# Altium footprint library Q's常用电子元件.PcbLib: 69 footprints (part 4 of 5)
Each footprint in its own frame and in the unit in brackets; x right, y up, seen from the top. Pads: shape width x height; smd on the part's side, far side on the other; paste and mask are expansions set on the pad; w line width, h text height; cw(c..) or ccw(c..) is an arc to the next point about the centre after c.
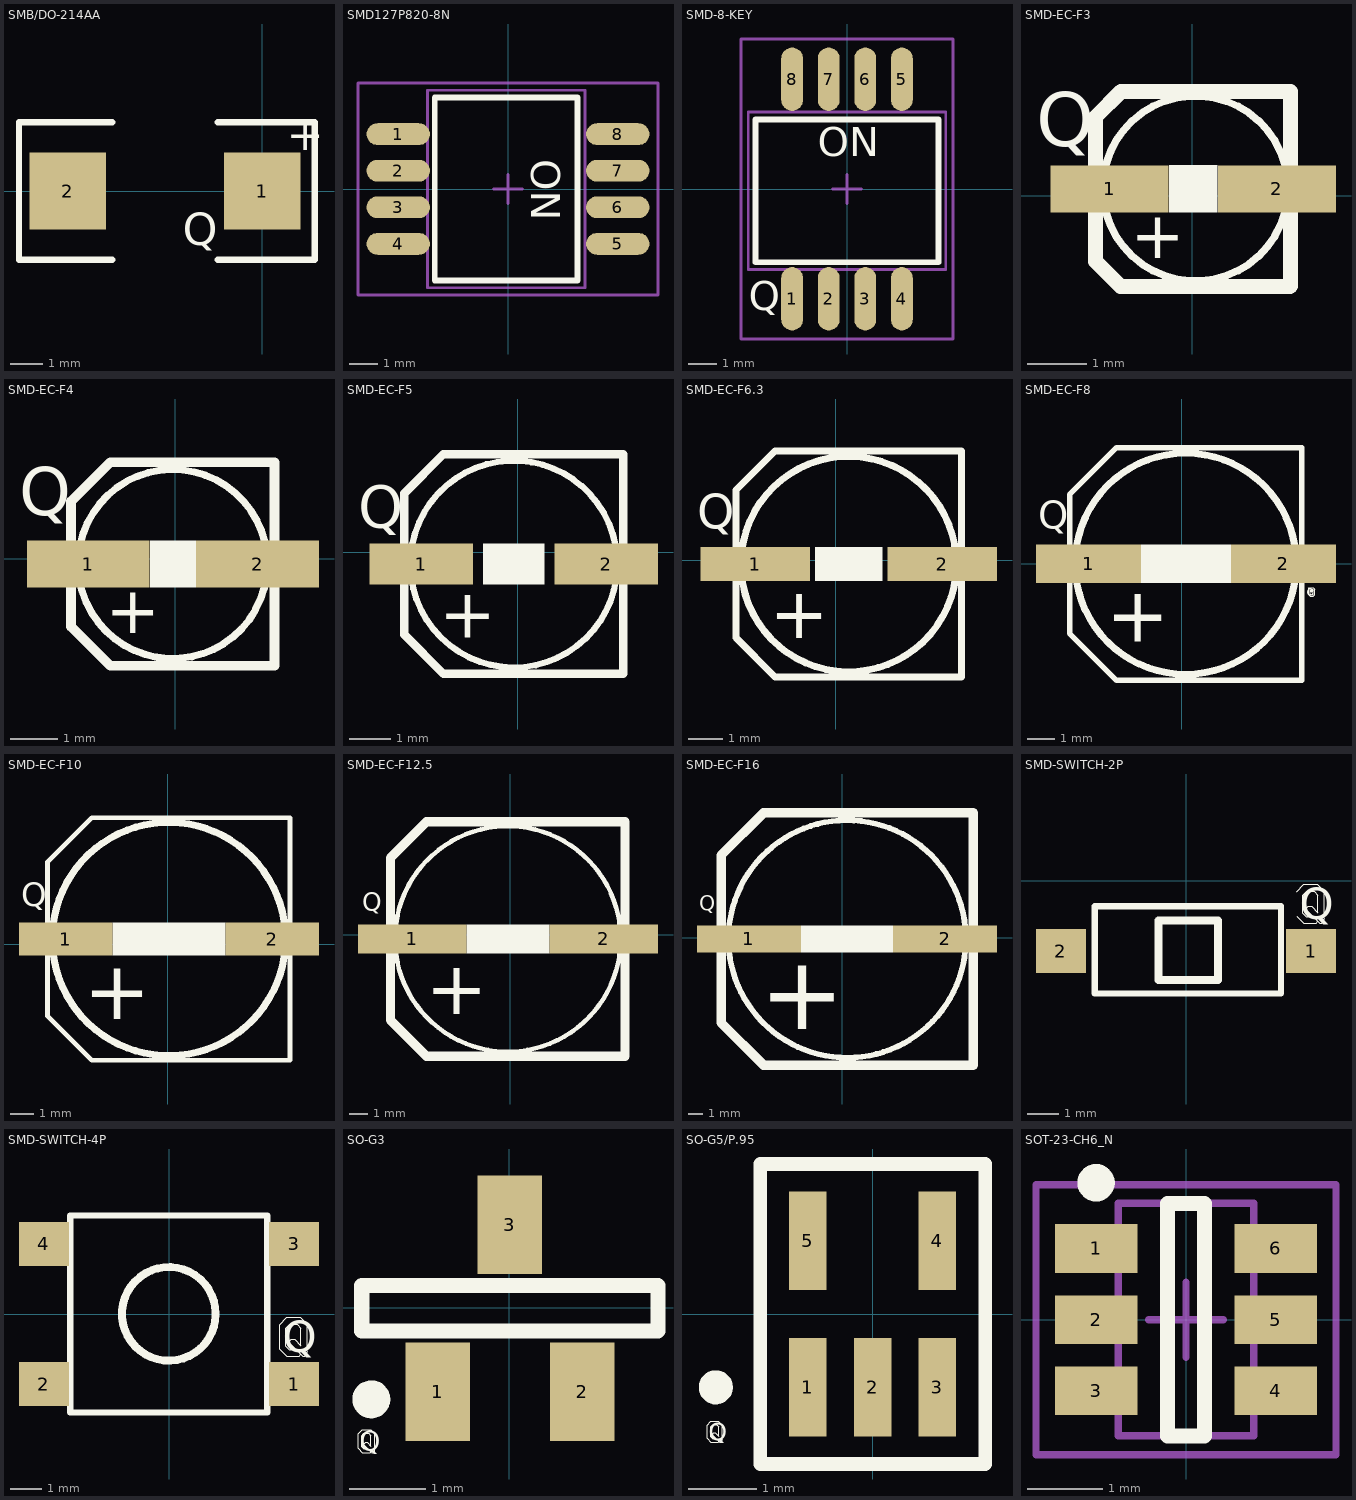
[diagram p3: the footprints below, top view; thin cyan lines are the x and y axes]

## SMB/DO-214AA [mm] "TVS封装"
pads (2):
  rect 2.4x2.4 smd: 1(0,0) 2(-6.096,0)
Top Overlay:
  lines w0.203: -4.699,-2.159 -7.62,-2.159 -7.62,2.159 -4.699,2.159 ; -1.397,-2.159 1.651,-2.159 1.651,2.159 -1.397,2.159
  text "Q" at -2.489,-1.702 h1.02
  text "+" at 0.762,1.27 h1.02
3D body: height 2.44, standoff 0.4, extent -5.981,-1.97 -0.381,1.97
3D body: height 1.6, standoff 0, extent -2.591,-1.817 -1.701,-0.571

## SMD127P820-8N [mm] "SOIC, 8-Leads, Body 4.9x3.9mm, Pitch 1.27mm, IPC Medium Density"
height 1.75
pads (8):
  oval 2.2x0.76 smd: 1(-3.81,1.905) 2(-3.81,0.635) 3(-3.81,-0.635) 4(-3.81,-1.905) 5(3.81,-1.905) 6(3.81,-0.635) 7(3.81,0.635) 8(3.81,1.905)
Top Overlay:
  lines w0.2: -2.54,-3.175 2.413,-3.175 2.413,3.175 -2.54,3.175 -2.54,-3.175
  text "ON" at 0.813,1.041 h1.02
Mechanical 13:
  lines w0.1: -2.794,-3.429 2.667,-3.429 2.667,3.429 -2.794,3.429 -2.794,-3.429
Mechanical 15:
  lines w0.1: -0.5,0 0.5,0 ; 0,-0.5 0,0.5 ; -5.207,-3.683 5.207,-3.683 5.207,3.683 -5.207,3.683 -5.207,-3.683
3D body: height 1.75, standoff 0, extent -2.733,-3.4 2.667,3.4

## SMD-8-KEY [mm] "SOIC, 8-Leads, Body 4.9x3.9mm, Pitch 1.27mm, IPC Medium Density"
height 1.75
pads (8):
  oval 0.76x2.2 smd: 1(-1.905,-3.81) 2(-0.635,-3.81) 3(0.635,-3.81) 4(1.905,-3.81) 5(1.905,3.81) 6(0.635,3.81) 7(-0.635,3.81) 8(-1.905,3.81)
Top Overlay:
  lines w0.2: -3.175,-2.54 3.175,-2.54 3.175,2.413 -3.175,2.413 -3.175,-2.54
  text "Q" at -3.404,-4.216 h1.02
  text "ON" at -1.016,1.143 h1.02
Mechanical 13:
  lines w0.1: -3.429,-2.794 3.429,-2.794 3.429,2.667 -3.429,2.667 -3.429,-2.794
Mechanical 15:
  lines w0.1: -0.5,0 0.5,0 ; 0,-0.5 0,0.5 ; -3.683,-5.207 3.683,-5.207 3.683,5.207 -3.683,5.207 -3.683,-5.207
3D body: height 2, standoff 0, extent 1.524,-1.524 2.286,0.127
3D body: height 2.3, standoff 0, extent 1.524,0.127 2.286,0.889
3D body: height 2, standoff 0, extent 0.254,-1.524 1.016,0.127
3D body: height 2.3, standoff 0, extent 0.254,0.127 1.016,0.889
3D body: height 2, standoff 0, extent -1.016,-0.762 -0.254,0.889
3D body: height 2.3, standoff 0, extent -1.016,-1.524 -0.254,-0.762
3D body: height 2.3, standoff 0, extent -2.286,0.127 -1.524,0.889
3D body: height 2, standoff 0, extent -2.286,-1.524 -1.524,0.127
3D body: height 1.8, standoff 0, extent -3.4,-2.733 3.4,2.667
3D body: height 0.76, standoff 0, extent -2.159,2.603 -1.651,3.81
3D body: height 0.76, standoff 0, extent -0.889,2.603 -0.381,3.81
3D body: height 0.76, standoff 0, extent 0.381,2.603 0.889,3.81
3D body: height 0.76, standoff 0, extent 1.651,2.603 2.159,3.81
3D body: height 0.76, standoff 0, extent -2.159,-3.81 -1.651,-2.603
3D body: height 0.76, standoff 0, extent -0.889,-3.81 -0.381,-2.603
3D body: height 0.76, standoff 0, extent 0.381,-3.81 0.889,-2.603
3D body: height 0.76, standoff 0, extent 1.651,-3.81 2.159,-2.603
3D body: height 1.6, standoff 0, extent -3.493,-4.169 -2.603,-2.923

## SMD-EC-F3 [mm] "贴片铝电解电容封装 by QUENTIN"
pads (2):
  rect 2x0.8 smd: 1(-1.397,0.119) 2(1.438,0.119)
Top Overlay:
  circle w0.127: c0.058,0.127 r1.568
  rectangle: -0.394,-0.28 0.435,0.525
  lines w0.203: -1.207,1.765 -1.631,1.341 -1.631,-1.11 -1.207,-1.534 1.663,-1.534 ; -1.202,1.77 1.669,1.77 1.669,-1.528
  lines w0.254: -1.631,-1.11 -1.207,-1.534 1.663,-1.534 1.669,-1.528 1.669,1.77 -1.202,1.77 -1.631,1.341 -1.631,-1.11
  text "Q" at -2.642,0.838 h0.91
  text "+" at -1.036,-1.056 h0.8
3D body: height 1.6, standoff 0, extent -2.762,0.721 -1.871,1.966
3D body: height 4, standoff 0, extent -1.517,-1.448 1.633,1.702
3D body: height 2, standoff 0, extent -1.631,-1.535 1.67,1.771

## SMD-EC-F4 [mm] "贴片铝电解电容封装 by QUENTIN"
pads (2):
  rect 2.6x1 smd: 1(-1.838,-0.112) 2(1.741,-0.112)
Top Overlay:
  rectangle: -0.536,-0.61 0.441,0.388
  lines w0.152: 1.723,0.813 ccw(c-0.051,-0.111) 1.724,0.81
  lines w0.203: 2.098,2.039 -1.377,2.039 -2.202,1.214 -2.202,-1.436 -1.377,-2.261 2.099,-2.261 2.099,2.038
  text "+" at -1.468,-1.572 h1
  text "Q" at -3.302,0.914 h1.02
3D body: height 1.6, standoff 0, extent -3.407,0.805 -2.517,2.05

## SMD-EC-F5 [mm] "贴片铝电解电容封装 by QUENTIN"
pads (2):
  rect 2.5x1 smd: 1(-2.337,-0.287) 2(2.14,-0.287)
Top Overlay:
  rectangle: -0.837,-0.787 0.644,0.213
  lines w0.152: 2.076,0.952 ccw(c-0.096,-0.287) 2.078,0.948
  lines w0.203: -2.12,-2.617 -2.744,-1.993 ; 2.553,2.369 -1.795,2.369 -1.796,2.368 -2.744,1.42 -2.744,-1.993 ; 2.554,-2.941 -1.795,-2.941 -1.795,-2.941 -2.744,-1.993 ; 2.555,-2.941 2.555,2.367
  text "Q" at -3.861,0.584 h1.02
  text "+" at -1.892,-2.064 h1.2
3D body: height 1.6, standoff 0, extent -3.894,0.411 -3.004,1.657

## SMD-EC-F6.3 [mm] "贴片铝电解电容封装 by QUENTIN"
pads (2):
  rect 3.2x1 smd: 1(-2.365,-0.114) 2(3.11,-0.114)
Top Overlay:
  rectangle: -0.618,-0.611 1.365,0.385
  lines w0.203: -1.778,-3.417 -2.929,-2.266 -2.929,2.049 -1.778,3.2 ; -1.776,-3.42 3.671,-3.42 3.671,3.194 -1.773,3.194 ; 3.302,1.041 ccw(c0.371,-0.113) 3.303,1.04
  text "Q" at -4.064,0.914 h1.02
  text "+" at -1.934,-2.278 h1.5
3D body: height 1.6, standoff 0, extent -4.042,0.711 -3.152,1.956

## SMD-EC-F8 [mm] "贴片铝电解电容封装 by QUENTIN"
pads (2):
  rect 3.8x1.4 smd: 1(-3.368,0) 2(3.683,0)
Top Overlay:
  rectangle: -1.478,-0.7 1.785,0.7
  lines w0.001: 4.592,-1.123 4.592,-0.932 4.605,-0.919 4.602,-0.919 4.597,-0.914 4.595,-0.912 4.595,-0.909 4.592,-0.907 4.592,-0.892 4.61,-0.874 4.63,-0.874 4.641,-0.884 4.729,-0.973 4.729,-0.993 4.714,-1.008 4.691,-1.008 4.643,-0.96 4.643,-1.1 4.671,-1.128 4.735,-1.128 4.763,-1.1 4.763,-0.953 4.735,-0.925 4.684,-0.925 4.643,-0.884 4.643,-0.881 4.651,-0.874 4.757,-0.874 4.813,-0.93 4.813,-1.123 4.757,-1.179 4.648,-1.179 4.63,-1.161 4.592,-1.123
  lines w0.203: -4.054,2.499 -2.355,4.198 ; -4.054,2.499 -4.054,-2.52 -2.355,-4.219 4.346,-4.219 4.346,4.198 -2.355,4.198 ; -4.054,2.499 -2.355,4.198
  lines w0.254: 4.147,0 ccw(c0.147,0) 4.147,0
  text "Q" at 4.788,-0.899 h0.25
  text "+" at -2.728,-2.818 h2
  text "Q" at -5.182,1.27 h1.02
3D body: height 0.6, standoff 0, extent 4.592,-1.179 4.814,-0.873
3D body: height 1.6, standoff 0, extent -5.294,0.939 -4.404,2.185

## SMD-EC-F10 [mm] "贴片铝电解电容封装 by QUENTIN"
pads (2):
  rect 4x1.4 smd: 1(-4.379,0.229) 2(4.481,0.229)
Top Overlay:
  circle w0.305: c0.043,0.229 r5
  rectangle: -2.373,-0.473 2.47,0.936
  lines w0.203: -3.259,5.432 -5.157,3.534 -5.157,-3.075 -3.259,-4.973 5.241,-4.973 5.241,5.429 -3.256,5.429
  text "+" at -3.599,-3.211 h2.5
  text "Q" at -6.274,1.626 h1.02
3D body: height 1.6, standoff 0, extent -6.539,1.275 -5.648,2.52

## SMD-EC-F12.5 [mm] "贴片铝电解电容封装 by QUENTIN"
pads (2):
  rect 6x1.6 smd: 1(-5.451,-0.221) 2(5.174,-0.221)
Top Overlay:
  circle w0.254: c-0.148,-0.221 r6.25
  rectangle: -2.432,-1.021 2.15,0.579
  lines w0.508: -6.653,-4.719 -4.652,-6.72 6.346,-6.72 6.346,6.274 -4.652,6.274 -4.654,6.272 -6.653,4.273 -6.653,-4.719
  text "Q" at -8.204,1.346 h1.02
  text "+" at -4.701,-4.389 h3
3D body: height 1.6, standoff 0, extent -8.131,1.038 -7.241,2.284

## SMD-EC-F16 [mm] "贴片铝电解电容封装 by QUENTIN"
pads (2):
  rect 7x1.8 smd: 1(-6.292,-0.079) 2(6.924,-0.079)
Top Overlay:
  rectangle: -2.789,-0.978 3.404,0.835
  lines w0.381: 8.009,2.161 ccw(c0.329,-0.078) 8.024,2.111
  lines w0.635: 8.83,-8.578 8.831,-8.579 ; 8.83,8.417 8.831,8.418 ; 8.831,-8.579 -5.31,-8.579 -8.169,-5.72 -8.169,5.56 -5.31,8.418 8.831,8.418 ; 8.831,-8.579 8.831,8.418
  text "+" at -5.562,-6.166 h5
  text "Q" at -9.652,1.829 h1.02
3D body: height 1.6, standoff 0, extent -9.719,1.546 -8.829,2.792

## SMD-SWITCH-2P [mm]
pads (2):
  rect 1.6x1.4 smd: 1(3.998,-2.244) 2(-4.012,-2.244)
Top Overlay:
  lines w0.001: 3.536,-1.125 3.764,-1.354 4.163,-1.354 4.221,-1.295 4.064,-1.138 3.84,-1.138 3.739,-1.036 3.739,-0.452 3.866,-0.325 4.094,-0.325 4.221,-0.452 4.221,-1.011 4.018,-0.808 3.917,-0.808 3.866,-0.859 3.866,-0.884 3.866,-0.935 3.894,-0.963 ; 3.536,-0.338 3.764,-0.109 4.196,-0.109 4.425,-0.338 4.425,-1.125 4.399,-1.151 4.399,-1.176 4.425,-1.201 4.425,-1.278 4.348,-1.354 4.285,-1.354 4.282,-1.354 3.894,-0.963 ; 3.894,-0.963 3.894,-0.963
  lines w0.2: -2.929,-3.607 -2.929,-0.813 3.04,-0.813 3.04,-3.607 -2.929,-3.607
  lines w0.254: -0.889,-3.175 1.016,-3.175 1.016,-1.27 -0.889,-1.27 -0.889,-3.175
  text "Q" at 3.642,-1.229 h1.02
3D body: height 0.76, standoff 0, extent 2.794,-2.667 4.572,-1.778
3D body: height 0.76, standoff 0, extent -4.572,-2.667 -2.794,-1.778
3D body: height 2.5, standoff 0, extent -3.104,-3.749 3.205,-0.721
3D body: height 4.57, standoff 0, extent -0.888,-3.174 1.015,-1.271
3D body: height 1.6, standoff 0, extent 3.535,-1.354 4.425,-0.109

## SMD-SWITCH-4P [mm]
pads (4):
  rect 1.6x1.4 smd: 1(3.998,-2.244) 2(-4.012,-2.244) 3(3.998,2.246) 4(-4.012,2.246)
Top Overlay:
  circle w0.254: c-0.012,0.006 r1.5
  lines w0.001: 3.894,-0.963 4.282,-1.354 4.285,-1.354 4.348,-1.354 4.425,-1.278 4.425,-1.201 4.399,-1.176 4.399,-1.151 4.425,-1.125 4.425,-0.338 4.196,-0.109 3.764,-0.109 3.536,-0.338 3.536,-1.125 3.764,-1.354 4.163,-1.354 4.221,-1.295 4.064,-1.138 3.84,-1.138 3.739,-1.036 3.739,-0.452 3.866,-0.325 4.094,-0.325 4.221,-0.452 4.221,-1.011 4.018,-0.808 3.917,-0.808 3.866,-0.859 3.866,-0.884 3.866,-0.935 3.894,-0.963 ; 3.894,-0.963 3.894,-0.963
  lines w0.2: -3.172,-3.154 -3.172,3.156 3.138,3.156 3.138,-3.154 -3.172,-3.154
  text "Q" at 3.642,-1.229 h1.02
3D body: height 4.57, standoff 0, extent -1.511,-1.494 1.488,1.505
3D body: height 0.76, standoff 0, extent -4.572,1.778 -2.794,2.667
3D body: height 0.76, standoff 0, extent 2.794,-2.667 4.572,-1.778
3D body: height 0.76, standoff 0, extent 2.794,1.778 4.572,2.667
3D body: height 0.76, standoff 0, extent -4.572,-2.667 -2.794,-1.778
3D body: height 2.5, standoff 0, extent -3.171,-3.154 3.138,3.155
3D body: height 1.6, standoff 0, extent 3.535,-1.354 4.425,-0.109

## SO-G3 [mm]
pads (3):
  rect 0.85x1.3 smd: 1(-0.939,-1.107) 2(0.961,-1.107) 3(0.011,1.093)
Top Overlay:
  circle w0.25: c-1.814,-1.207 r0.125
  lines w0.001: -1.989,-1.854 -1.989,-1.661 -1.933,-1.605 -1.824,-1.605 -1.806,-1.623 -1.768,-1.661 -1.768,-1.852 -1.781,-1.864 -1.778,-1.864 -1.773,-1.869 -1.77,-1.872 -1.77,-1.875 -1.768,-1.877 -1.768,-1.892 -1.786,-1.91 -1.806,-1.91 -1.816,-1.9 -1.905,-1.811 -1.905,-1.791 -1.89,-1.775 -1.867,-1.775 -1.819,-1.824 -1.819,-1.684 -1.847,-1.656 -1.91,-1.656 -1.938,-1.684 -1.938,-1.831 -1.91,-1.859 -1.859,-1.859 -1.819,-1.9 -1.819,-1.902 -1.826,-1.91 -1.933,-1.91 -1.989,-1.854
  lines w0.2: -1.939,-0.307 -1.939,0.293 1.961,0.293 1.961,-0.307 -1.939,-0.307
  text "Q" at -1.963,-1.885 h0.25
3D body: height 0.51, standoff 0, extent -0.293,0.621 0.342,1.51
3D body: height 0.51, standoff 0, extent 0.63,-1.524 1.265,-0.635
3D body: height 0.51, standoff 0, extent -1.27,-1.524 -0.635,-0.635
3D body: height 2.54, standoff 0, extent -1.651,-0.635 1.651,0.635
3D body: height 0.6, standoff 0, extent -1.989,-1.911 -1.767,-1.605

## SO-G5/P.95 [mm]
pads (5):
  rect 0.55x1.45 smd: 1(-0.954,-1.07) 2(-0.004,-1.07) 3(0.946,-1.07) 4(0.946,1.08) 5(-0.954,1.08)
Top Overlay:
  circle w0.25: c-2.304,-1.07 r0.125
  lines w0.001: -2.431,-1.819 -2.431,-1.626 -2.375,-1.57 -2.266,-1.57 -2.248,-1.587 -2.21,-1.626 -2.21,-1.816 -2.222,-1.829 -2.22,-1.829 -2.215,-1.834 -2.212,-1.836 -2.212,-1.839 -2.21,-1.841 -2.21,-1.857 -2.228,-1.875 -2.248,-1.875 -2.258,-1.864 -2.347,-1.775 -2.347,-1.755 -2.332,-1.74 -2.309,-1.74 -2.261,-1.788 -2.261,-1.648 -2.289,-1.621 -2.352,-1.621 -2.38,-1.648 -2.38,-1.796 -2.352,-1.824 -2.301,-1.824 -2.261,-1.864 -2.261,-1.867 -2.268,-1.875 -2.375,-1.875 -2.431,-1.819
  lines w0.2: -1.654,-2.195 1.646,-2.195 1.646,2.205 -1.654,2.205 -1.654,-2.195
  text "Q" at -2.405,-1.849 h0.25
3D body: height 0.89, standoff 0, extent -1.27,-1.778 1.27,1.778
3D body: height 0.6, standoff 0, extent -2.431,-1.875 -2.209,-1.569

## SOT-23-CH6_N [mm] "SOT23, 6-Leads, Body 2.9x1.6mm, Pitch 0.95mm, Lead Span 2.7mm, IPC Medium Density"
height 1.45
pads (6):
  rect 1.1x0.65 smd: 1(-1.2,0.95) 2(-1.2,0) 3(-1.2,-0.95) 4(1.2,-0.95) 5(1.2,0) 6(1.2,0.95)
Top Overlay:
  circle w0.25: c-1.2,1.825 r0.125
  lines w0.2: -0.25,-1.55 -0.25,1.55 0.25,1.55 0.25,-1.55 -0.25,-1.55
Mechanical 13:
  lines w0.1: -0.9,-1.55 0.9,-1.55 0.9,1.55 -0.9,1.55 -0.9,-1.55
Mechanical 15:
  lines w0.1: -0.5,0 0.5,0 ; 0,-0.5 0,0.5 ; -2,-1.8 2,-1.8 2,1.8 -2,1.8 -2,-1.8
3D body: height 1.45, standoff 0, extent -0.9,-1.55 0.9,1.55